# EAGLE library part USB-C (library USB)
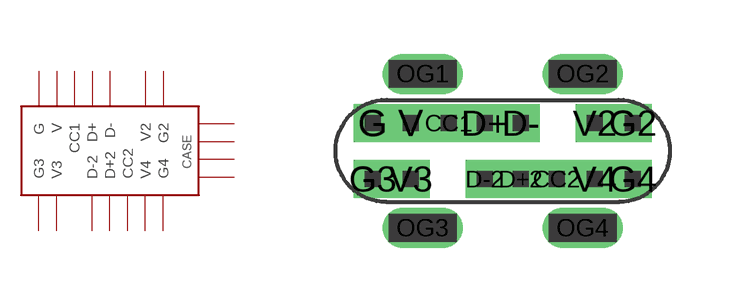
[diagram p0: symbol with the pads of 918-418K2022Y40000; footprint 918-418K2022Y40000]

Designator prefix -

## USB-C  [918-418K2022Y40000]
CC1  CC1
CC2  CC2
D+  D+
D+2  D+2
D-  D-
D-2  D-2
G  G
G2  G2
G3  G3
G4  G4
OG1  1
OG2  2
OG3  3
OG4  4
V  V
V2  V2
V3  V3
V4  V4

## Footprint 918-418K2022Y40000 (pad centres in mm)
drill 0.45 pad 0.7 square: CC1 -1.35,0.7; CC2 1.35,-0.7; D+ -0.45,0.7; D+2 0.45,-0.7; D- 0.45,0.7; D-2 -0.45,-0.7; G -3.25,0.7; G2 3.25,0.7; G3 -3.25,-0.7; G4 3.25,-0.7; V -2.3,0.7; V2 2.3,0.7; V3 -2.3,-0.7; V4 2.3,-0.7
drill 0.5 pad 1 long: OG1 -2,1.93; OG2 2,1.93; OG3 -2,-1.93; OG4 2,-1.93